# EAGLE library part 662020231722 (library Wurth_Elektronik_Electromechanic_Wire_to_Board_Connectors_rev16a)
WR-MPC3 3.00mm Male Dual Row SMT Angled Header SMT Fitting Nail Clip, 20 Pins=>Code : Con_WTB_MPC3_2_PCB_SMT_662020231722 <http://katalog.we-online.de/media/thumbs2/eican/thb_Con_WTB_MPC3_2_PCB_SMT_6620xx231722_pf2.jpg> Details see: http://katalog.we-online.de/en/em/662_0xx_231_722 Created 2014-06-06, Karrer Zheng 2014 (C) Würth Elektronik
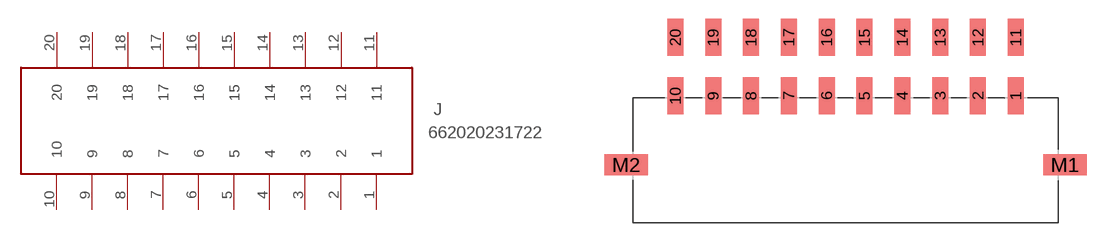
[diagram p391: symbol with the pads of 662020231722; footprint 662020231722]

Designator prefix J

## 662020231722  [662020231722]
1  1
2  2
3  3
4  4
5  5
6  6
7  7
8  8
9  9
10  10
11  11
12  12
13  13
14  14
15  15
16  16
17  17
18  18
19  19
20  20

## Footprint 662020231722 (pad centres in mm)
WR-MPC3 3.00mm Male Dual Row SMT Angled Header SMT Fitting Nail Clip, 20 Pins
smd 1.27 x 2.92: 1 13.5,5.48; 2 10.5,5.48; 3 7.5,5.48; 4 4.5,5.48; 5 1.5,5.48; 6 -1.5,5.48; 7 -4.5,5.48; 8 -7.5,5.48; 9 -10.5,5.48; 10 -13.5,5.48; 11 13.5,10.1; 12 10.5,10.1; 13 7.5,10.1; 14 4.5,10.1; 15 1.5,10.1; 16 -1.5,10.1; 17 -4.5,10.1; 18 -7.5,10.1; 19 -10.5,10.1; 20 -13.5,10.1
smd 3.43 x 1.65: M1 17.395,0; M2 -17.395,0